# EAGLE library part E18MD0 (library arno)
EBYTE E18-MD0 Cheap, Chinese module with an CC2530F256 SoC on it. DESIGN HAS NOT BEEN VERIFIED! USE AT YOUR OWN RISK! Info about the CC2530 from TI.com: The CC2530 is a true system-on-chip (SoC) solution for IEEE 802.15.4, Zigbee and RF4CE applications. It enables robust network nodes to be built with very low total bill-of-material costs. The CC2530 combines the excellent performance of a leading RF transceiver with an industry-standard enhanced 8051 MCU, in-system programmable flash memory, 8-KB RAM, and many other powerful features. The CC2530 comes in four different flash versions: CC2530F32/64/128/256, with 32/64/128/256 KB of flash memory, respectively. The CC2530 has various operating modes, making it highly suited for systems where ultralow power consumption is required. Short transition times between operating modes further ensure low energy consumption.
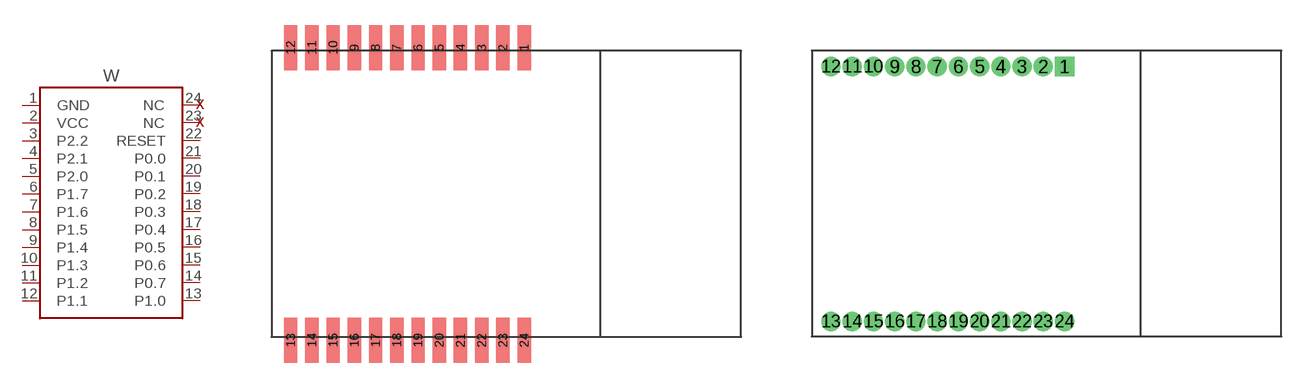
[diagram p23: symbol with the pads of E18MD0; footprints E18MD0, E18MD0H]

Designator prefix W

## E18MD0-SMD  [E18MD0]
1  GND  pwr
2  VCC  pwr
3  P2.2
4  P2.1
5  P2.0
6  P1.7
7  P1.6
8  P1.5
9  P1.4
10  P1.3
11  P1.2
12  P1.1
13  P1.0
14  P0.7
15  P0.6
16  P0.5
17  P0.4
18  P0.3
19  P0.2
20  P0.1
21  P0.0
22  RESET  in
23  NC2  nc
24  NC1  nc

## E18MD0-PTH  [E18MD0H]
Pads as for E18MD0

## Footprint E18MD0 (pad centres in mm)
EBYTE E18-MD0 Cheap, Chinese module with an CC2530 SoC on it. This package is meant for SMD mounting the module. THIS PACKAGE HAS NOT BEEN VERIFIED! USE AT YOUR OWN RISK!
smd 0.8 x 2.7: 1 15.12,17.3; 2 13.85,17.3; 3 12.58,17.3; 4 11.31,17.3; 5 10.04,17.3; 6 8.77,17.3; 7 7.5,17.3; 8 6.23,17.3; 9 4.96,17.3; 10 3.69,17.3; 11 2.42,17.3; 12 1.15,17.3; 13 1.15,-0.2; 14 2.42,-0.2; 15 3.69,-0.2; 16 4.96,-0.2; 17 6.23,-0.2; 18 7.5,-0.2; 19 8.77,-0.2; 20 10.04,-0.2; 21 11.31,-0.2; 22 12.58,-0.2; 23 13.85,-0.2; 24 15.12,-0.2

## Footprint E18MD0H (pad centres in mm)
EBYTE E18-MD0 Cheap, Chinese module with an CC2530 SoC on it. This package is meant for mounting the module with pin headers (1.27mm pitch). THIS PACKAGE HAS NOT BEEN VERIFIED! USE AT YOUR OWN RISK!
drill 0.65 pad 1 square: 1 15.12,16.15
drill 0.65 pad 1: 2 13.85,16.15; 3 12.58,16.15; 4 11.31,16.15; 5 10.04,16.15; 6 8.77,16.15; 7 7.5,16.15; 8 6.23,16.15; 9 4.96,16.15; 10 3.69,16.15; 11 2.42,16.15; 12 1.15,16.15; 13 1.15,0.905; 14 2.42,0.905; 15 3.69,0.905; 16 4.96,0.905; 17 6.23,0.905; 18 7.5,0.905; 19 8.77,0.905; 20 10.04,0.905; 21 11.31,0.905; 22 12.58,0.905; 23 13.85,0.905; 24 15.12,0.905